# EAGLE library part AS5601 (library AS5601 - Programmable Contactless Encoder)
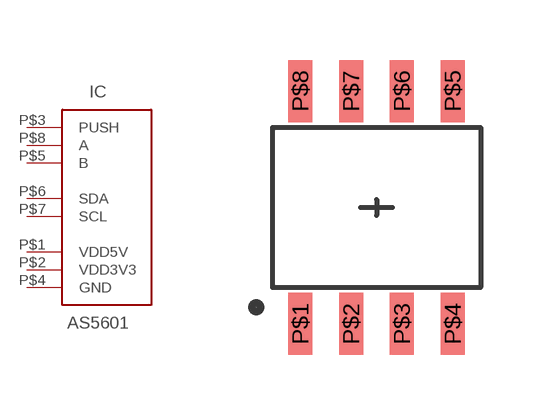
[diagram p0: symbol with the pads of SOIC8; footprint SOIC8]

Designator prefix IC

## AS5601  [SOIC8]
P$1  VDD5V  pwr
P$2  VDD3V3  pwr
P$3  PUSH  out
P$4  GND  pwr
P$5  B  out
P$6  SDA
P$7  SCL  in
P$8  A  out

## Footprint SOIC8 (pad centres in mm)
smd 0.6 x 1.55: P$1 -1.905,-2.91; P$2 -0.635,-2.91; P$3 0.635,-2.91; P$4 1.905,-2.91; P$5 1.905,2.91; P$6 0.635,2.91; P$7 -0.635,2.91; P$8 -1.905,2.91